# EAGLE library part LIGHT_TO_FREQ_CONVERTER (library awqua_eagle_library)
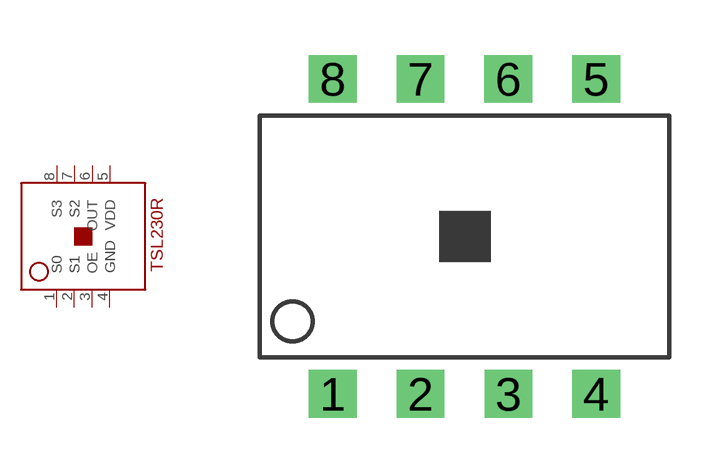
[diagram p1: symbol with the pads of LIGHT_TO_FREQ_CONVERTER; footprint LIGHT_TO_FREQ_CONVERTER]

Designator prefix -

## LIGHT_TO_FREQ_CONVERTER  [LIGHT_TO_FREQ_CONVERTER]
1  S0
2  S1
3  OE
4  GND
5  VDD
6  OUT
7  S2
8  S3

## Footprint LIGHT_TO_FREQ_CONVERTER (pad centres in mm)
drill 0.8 square: 1 2,-1; 2 4.39,-1; 3 6.79,-1; 4 9.18,-1; 5 9.18,7.6; 6 6.78,7.6; 7 4.39,7.6; 8 2,7.6